# Altium footprint library BRye_PCBLib.PcbLib: 45 footprints (part 1 of 3)
Each footprint in its own frame and in the unit in brackets; x right, y up, seen from the top. Pads: shape width x height; smd on the part's side, far side on the other; paste and mask are expansions set on the pad; w line width, h text height; cw(c..) or ccw(c..) is an arc to the next point about the centre after c.
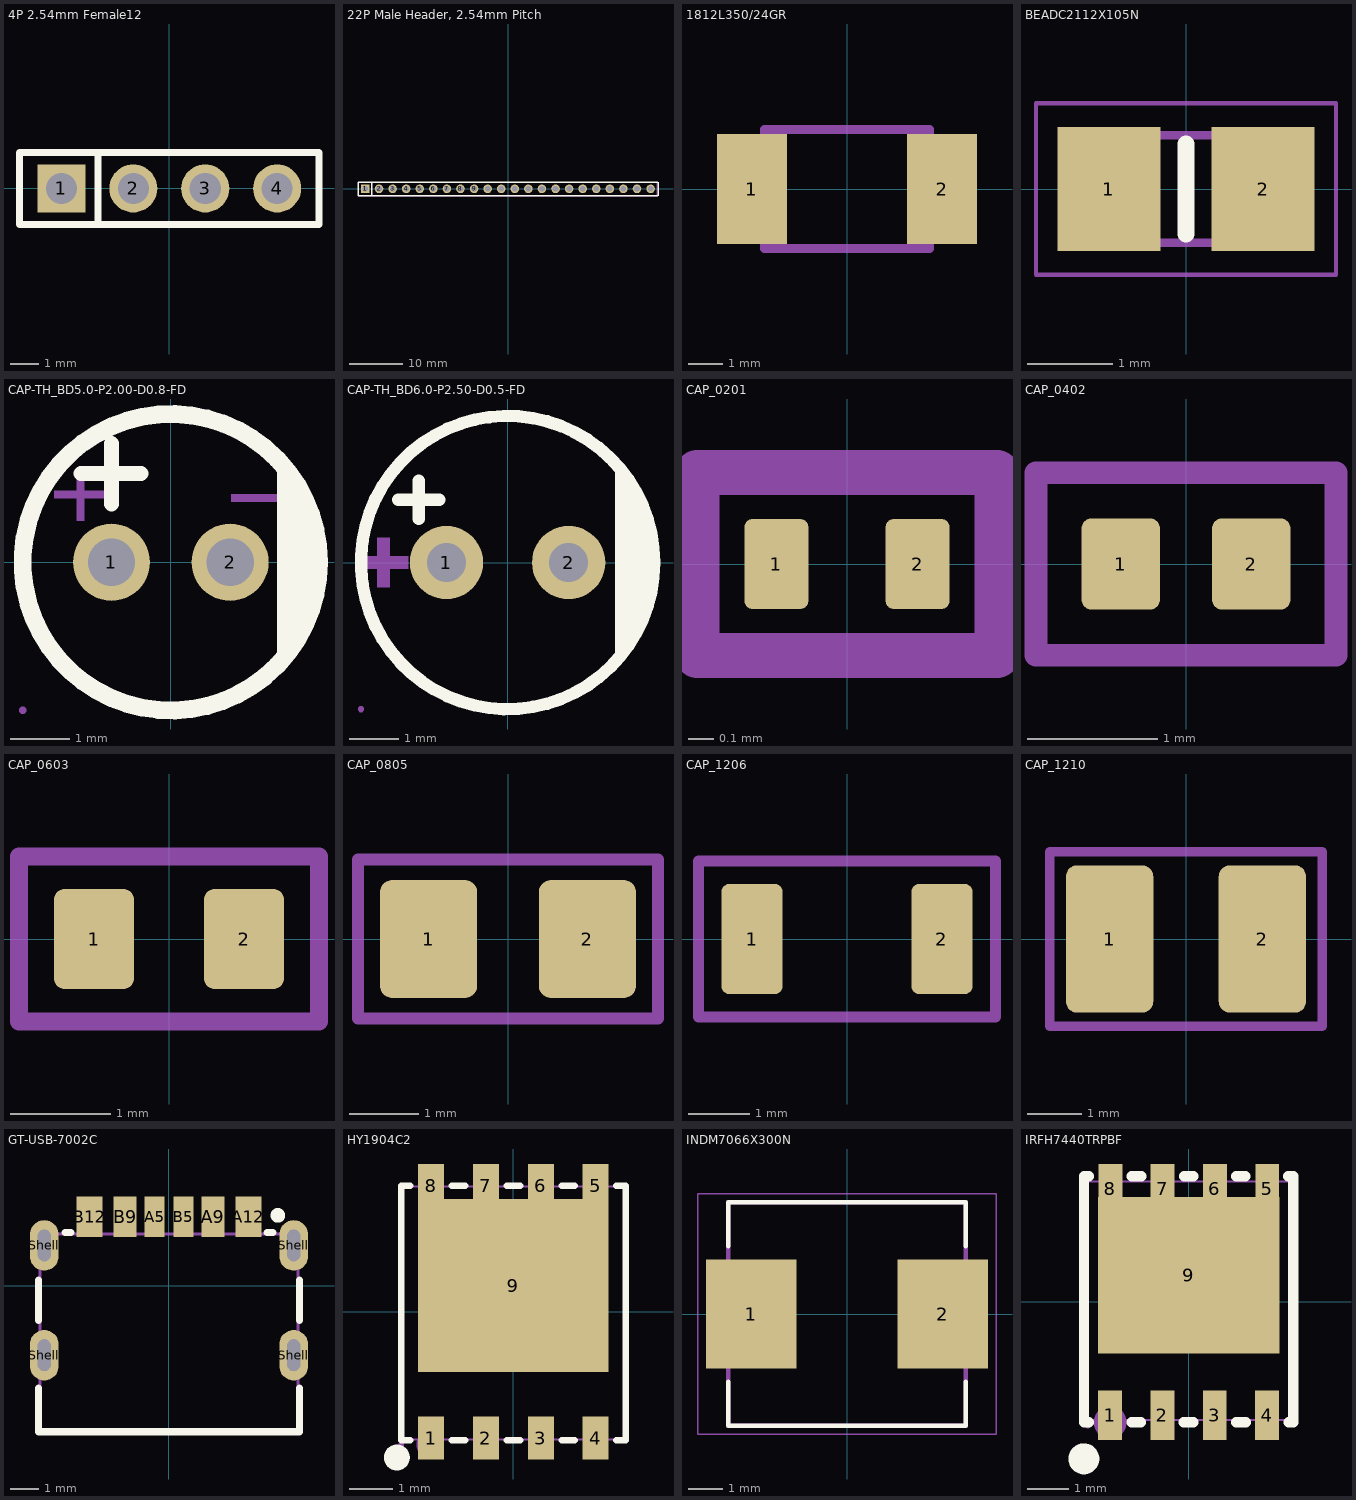
[diagram p0: the footprints below, top view; thin cyan lines are the x and y axes]

## 4P 2.54mm Female12 [mm]
pads (4):
  rect 1.7x1.7 hole 1.1: 1(-3.81,0)
  round 1.7 hole 1.1: 2(-1.27,0) 3(1.27,0) 4(3.81,0)
Top Overlay:
  lines w0.254: -2.516,-1.27 -2.516,1.27 ; -5.29,-1.27 -5.29,1.27 5.29,1.27 5.29,-1.27 -5.29,-1.27
Mechanical 15:
  region: -4.13,0.15 -3.49,0.15 -3.49,-0.15 -4.13,-0.15
  region: -1.59,0.15 -0.95,0.15 -0.95,-0.15 -1.59,-0.15
  region: 0.95,0.15 1.59,0.15 1.59,-0.15 0.95,-0.15
  region: 3.49,0.15 4.13,0.15 4.13,-0.15 3.49,-0.15
  region: -5.19,-1.25 -5.19,-1.275 -5.225,-1.31 -5.275,-1.31 -5.31,-1.275 -5.31,-1.25 -5.31,-1.225 -5.275,-1.19 -5.225,-1.19 -5.19,-1.225
  lines w0.051: -5.25,-1.25 -5.25,1.25 5.25,1.25 5.25,-1.25 -5.25,-1.25

## 22P Male Header, 2.54mm Pitch [mm]
pads (22):
  rect 1.6x1.6 hole 1.05: 1(-26.67,0)
  round 1.6 hole 1.05: 2(-24.13,0) 3(-21.59,0) 4(-19.05,0) 5(-16.51,0) 6(-13.97,0) 7(-11.43,0) 8(-8.89,0) 9(-6.35,0) 10(-3.81,0) 11(-1.27,0) 12(1.27,0) 13(3.81,0) 14(6.35,0) 15(8.89,0) 16(11.43,0) 17(13.97,0) 18(16.51,0) 19(19.05,0) 20(21.59,0) 21(24.13,0) 22(26.67,0)
Top Overlay:
  lines w0.254: -25.492,-1.25 -25.492,1.25 ; 28.03,-1.25 -28.06,-1.25 -28.06,1.25 28.03,1.25 ; 28.06,-1.25 28.06,1.25
Mechanical 15:
  region: -26.99,0.32 -26.35,0.32 -26.35,-0.32 -26.99,-0.32
  region: -24.45,0.32 -23.81,0.32 -23.81,-0.32 -24.45,-0.32
  region: -21.91,0.32 -21.27,0.32 -21.27,-0.32 -21.91,-0.32
  region: -19.37,0.32 -18.73,0.32 -18.73,-0.32 -19.37,-0.32
  region: -16.83,0.32 -16.19,0.32 -16.19,-0.32 -16.83,-0.32
  region: -14.29,0.32 -13.65,0.32 -13.65,-0.32 -14.29,-0.32
  region: -11.75,0.32 -11.11,0.32 -11.11,-0.32 -11.75,-0.32
  region: -9.21,0.32 -8.57,0.32 -8.57,-0.32 -9.21,-0.32
  region: -6.67,0.32 -6.03,0.32 -6.03,-0.32 -6.67,-0.32
  region: -4.13,0.32 -3.49,0.32 -3.49,-0.32 -4.13,-0.32
  region: -1.59,0.32 -0.95,0.32 -0.95,-0.32 -1.59,-0.32
  region: 0.95,0.32 1.59,0.32 1.59,-0.32 0.95,-0.32
  region: 3.49,0.32 4.13,0.32 4.13,-0.32 3.49,-0.32
  region: 6.03,0.32 6.67,0.32 6.67,-0.32 6.03,-0.32
  region: 8.57,0.32 9.21,0.32 9.21,-0.32 8.57,-0.32
  region: 11.11,0.32 11.75,0.32 11.75,-0.32 11.11,-0.32
  region: 13.65,0.32 14.29,0.32 14.29,-0.32 13.65,-0.32
  region: 16.19,0.32 16.83,0.32 16.83,-0.32 16.19,-0.32
  region: 18.73,0.32 19.37,0.32 19.37,-0.32 18.73,-0.32
  region: 21.27,0.32 21.91,0.32 21.91,-0.32 21.27,-0.32
  region: 23.81,0.32 24.45,0.32 24.45,-0.32 23.81,-0.32
  region: 26.35,0.32 26.99,0.32 26.99,-0.32 26.35,-0.32
  region: -27.88,-1.27 -27.88,-1.295 -27.915,-1.33 -27.965,-1.33 -28,-1.295 -28,-1.27 -28,-1.245 -27.965,-1.21 -27.915,-1.21 -27.88,-1.245
  lines w0.051: -27.94,-1.27 -27.94,1.27 27.94,1.27 27.94,-1.27 -27.94,-1.27

## 1812L350/24GR [mm]
pads (2):
  rect 2x3.15 smd: 1(-2.725,0) 2(2.725,0)
Top Courtyard:
  lines w0.254: -2.365,-1.705 2.365,-1.705 2.365,1.705 -2.365,1.705 -2.365,-1.705
3D body: height 1.5, standoff 0, extent -2.365,-1.705 2.365,1.705

## BEADC2112X105N [mm]
pads (2):
  rect 1.2x1.45 smd: 1(-0.9,0) 2(0.9,0)
Top Overlay:
  lines w0.2: 0,-0.525 0,0.525
Top Assembly:
  lines w0.1: -1.05,-0.625 1.05,-0.625 1.05,0.625 -1.05,0.625 -1.05,-0.625
Mechanical 15:
  lines w0.05: -1.75,-1 1.75,-1 1.75,1 -1.75,1 -1.75,-1
3D body "GZ2012D601TF.stp": height 1.05, standoff 0, extent -1.05,-0.625 1.05,0.625

## CAP-TH_BD5.0-P2.00-D0.8-FD [mm]
pads (2):
  round 1.3 hole 0.8: 1(-1,0) 2(1,0)
Top Overlay:
  circle w0.3: c0,0 r2.5
  region: 1.794,1.651 1.961,1.491 2.225,1.111 2.407,0.685 2.5,0.231 2.5,-0.231 2.407,-0.685 2.225,-1.111 1.961,-1.491 1.794,-1.651
  lines w0.254: -1.516,1.5 -0.5,1.5 ; -1,0.984 -1,2
Mechanical 6:
  region: 1.016,1.143 1.905,1.143 1.905,1.016 1.016,1.016
  region: -1.588,0.699 -1.588,1.588 -1.461,1.588 -1.46,0.699
  region: -1.969,1.207 -1.08,1.207 -1.08,1.08 -1.969,1.08
Mechanical 15:
  region: 1.3,0 1.3,-0.06 1.254,-0.17 1.17,-0.254 1.06,-0.3 0.94,-0.3 0.83,-0.254 0.746,-0.17 0.7,-0.06 0.7,0 0.7,0.06 0.746,0.17 0.83,0.254 0.94,0.3 1.06,0.3 1.17,0.254 1.254,0.17 1.3,0.06
  region: -0.7,0 -0.7,-0.06 -0.746,-0.17 -0.83,-0.254 -0.94,-0.3 -1.06,-0.3 -1.17,-0.254 -1.254,-0.17 -1.3,-0.06 -1.3,0 -1.3,0.06 -1.254,0.17 -1.17,0.254 -1.06,0.3 -0.94,0.3 -0.83,0.254 -0.746,0.17 -0.7,0.06
  region: -2.44,-2.5 -2.44,-2.525 -2.475,-2.56 -2.525,-2.56 -2.56,-2.525 -2.56,-2.5 -2.56,-2.475 -2.525,-2.44 -2.475,-2.44 -2.44,-2.475
  lines w0.051: 0,-2.5 ccw(c0,0) 2.5,0 ; 0,-2.5 cw(c0,0) -2.5,0 cw(c0,0) 0,2.5 cw(c0,0) 2.5,0 ; 0,-2.5 0,-2.5 ; 2.5,0 2.5,0

## CAP-TH_BD6.0-P2.50-D0.5-FD [mm]
pads (2):
  round 1.5 hole 0.8: 1(-1.25,0) 2(1.25,0)
Top Overlay:
  circle w0.254: c0,0 r3
  region: 2.2,-2.1 2.339,-1.961 2.579,-1.649 2.775,-1.308 2.926,-0.945 3.027,-0.565 3.079,-0.175 3.079,0.218 3.027,0.608 2.926,0.988 2.775,1.351 2.579,1.692 2.339,2.004 2.2,2.143
  lines w0.254: -2.235,1.284 -1.397,1.284 ; -1.816,0.89 -1.816,1.677
Mechanical 6:
  region: -3.048,0.127 -2.667,0.127 -2.667,0.508 -2.413,0.508 -2.413,0.127 -2.032,0.127 -2.032,-0.127 -2.413,-0.127 -2.413,-0.508 -2.667,-0.508 -2.667,-0.127 -3.048,-0.127
  region: 2.2,-2.1 2.339,-1.961 2.579,-1.649 2.775,-1.308 2.926,-0.945 3.027,-0.565 3.079,-0.175 3.079,0.218 3.027,0.608 2.926,0.988 2.775,1.351 2.579,1.692 2.339,2.004 2.2,2.143
Mechanical 15:
  region: -1,0 -1,-0.05 -1.038,-0.142 -1.108,-0.212 -1.2,-0.25 -1.3,-0.25 -1.392,-0.212 -1.462,-0.142 -1.5,-0.05 -1.5,0 -1.5,0.05 -1.462,0.142 -1.392,0.212 -1.3,0.25 -1.2,0.25 -1.108,0.212 -1.038,0.142 -1,0.05
  region: 1.5,0 1.5,-0.05 1.462,-0.142 1.392,-0.212 1.3,-0.25 1.2,-0.25 1.109,-0.212 1.038,-0.142 1,-0.05 1,0 1,0.05 1.038,0.142 1.109,0.212 1.2,0.25 1.3,0.25 1.392,0.212 1.462,0.142 1.5,0.05
  region: -2.94,-3 -2.94,-3.025 -2.975,-3.06 -3.025,-3.06 -3.06,-3.025 -3.06,-3 -3.06,-2.975 -3.025,-2.94 -2.975,-2.94 -2.94,-2.975
  lines w0.051: -3,0 cw(c0,0) 0,3 cw(c0,0) 3,0 cw(c0,0) 0,-3 cw(c0,0) -3,0

## CAP_0201 [mm]
pads (2):
  rrect25% 0.25x0.35 smd mask+0.05: 1(-0.275,0) 2(0.275,0)
Top Assembly:
  lines w0.175: -0.584,-0.356 -0.584,0.356 0.584,0.356 0.584,-0.356 -0.584,-0.356
  text "'.Designator'" at -5.665,-0.417 h1
3D body "C0201.stp": height 0.34, standoff 0.01, extent -0.315,-0.166 0.315,0.164

## CAP_0402 [mm]
pads (2):
  rrect25% 0.6x0.7 smd: 1(-0.5,0) 2(0.5,0)
Top Assembly:
  lines w0.175: -1.15,-0.7 1.15,-0.7 1.15,0.7 -1.15,0.7 -1.15,-0.7
  text "'.Designator'" at -5.665,-0.29 h1
3D body "C0402.step": height 0.37, standoff 0.01, extent -0.5,-0.265 0.5,0.265

## CAP_0603 [mm]
pads (2):
  rrect25% 0.8x1 smd: 1(-0.75,0) 2(0.75,0)
Top Assembly:
  lines w0.175: -1.5,-0.825 -1.5,0.825 1.5,0.825 1.5,-0.825 -1.5,-0.825
  text "'.Designator'" at -5.665,-0.417 h1
3D body "C0603.step": height 0.51, standoff 0.01, extent -0.8,-0.4 0.8,0.4

## CAP_0805 [mm]
pads (2):
  rrect25% 1.4x1.7 smd: 1(-1.143,0) 2(1.143,0)
Top Assembly:
  lines w0.175: -2.159,-1.143 2.159,-1.143 2.159,1.143 -2.159,1.143 -2.159,-1.143
  text "'.Designator'" at -5.665,-0.417 h1
3D body "C0805.stp": height 1.01, standoff 0.01, extent -1.15,-0.762 1.15,0.788

## CAP_1206 [mm]
pads (2):
  rrect25% 1x1.8 smd: 1(-1.55,0) 2(1.55,0)
Top Assembly:
  lines w0.175: -2.425,-1.275 -2.425,1.275 2.425,1.275 2.425,-1.275 -2.425,-1.275
  text "'.Designator'" at -5.665,-0.417 h1
3D body "C1206.step": height 0.94, standoff 0, extent -1.6,-0.8 1.6,0.8

## CAP_1210 [mm]
height 1.35
pads (2):
  rrect25% 1.6x2.7 smd: 1(-1.4,0) 2(1.4,0)
Top Assembly:
  lines w0.175: -2.5,-1.6 2.5,-1.6 2.5,1.6 -2.5,1.6 -2.5,-1.6
  text "'.Designator'" at -5.665,-0.417 h1
3D body "C1210.step": height 2.5, standoff 0, extent -1.6,-1.25 1.6,1.25

## GT-USB-7002C [mm] "6 Pin USB type-c footrprint"
pads (10):
  rect 0.7x1.4 smd: A5(-0.5,2.4) B5(0.5,2.4)
  rect 0.8x1.4 smd: A9(1.52,2.4) B9(-1.52,2.4)
  rect 0.9x1.4 smd: A12(2.75,2.4) B12(-2.75,2.4)
  oval 1x1.75 hole 0.45 slot 1.1 at 90 deg: Shell(-4.32,-2.4) Shell(-4.32,1.4) Shell(4.32,-2.4) Shell(4.32,1.4)
Top Overlay:
  circle w0.254: c3.77,2.44 r0.127
  lines w0.254: -4.52,-3.55 -4.52,-5.05 4.52,-5.05 4.52,-3.55 ; -4.52,-1.2 -4.52,0.2 ; -3.6,1.85 -3.4,1.85 ; 3.4,1.85 3.6,1.85 ; 4.52,-1.2 4.52,0.2
Top Courtyard:
  lines w0.1: -4.47,-5 4.47,-5 4.47,1.8 -4.47,1.8 -4.47,-5

## HY1904C2 [mm] "HY1904C2"
pads (9):
  rect 0.6x1 smd paste-100 mask+0.05: 1(-1.905,-2.925) 2(-0.635,-2.925) 3(0.635,-2.925) 4(1.905,-2.925) 5(1.905,2.925) 6(0.635,2.925) 7(-0.635,2.925) 8(-1.905,2.925)
  rect 4.41x4 smd paste-100 mask+0.05: 9(0,0.61)
Top Overlay:
  circle w0.3: c-2.7,-3.375 r0.15
  lines w0.152: -2.385,-2.975 -2.6,-2.975 -2.6,2.925 -2.385,2.925 ; -1.425,-2.975 -1.115,-2.975 ; -1.425,2.925 -1.115,2.925 ; -0.155,-2.975 0.155,-2.975 ; -0.155,2.925 0.155,2.925 ; 1.115,-2.975 1.425,-2.975 ; 1.115,2.925 1.425,2.925 ; 2.385,-2.975 2.6,-2.975 2.6,2.925 2.385,2.925
Top Paste:
  region: 2.205,3.425 1.605,3.425 1.605,2.61 0.935,2.61 0.935,3.425 0.335,3.425 0.335,2.61 -0.335,2.61 -0.335,3.425 -0.935,3.425 -0.935,2.61 -1.605,2.61 -1.605,3.425 -2.205,3.425 -2.205,-1.39 2.205,-1.39
  region: 1.605,-3.425 2.205,-3.425 2.205,-2.425 1.605,-2.425
  region: 0.335,-3.425 0.935,-3.425 0.935,-2.425 0.335,-2.425
  region: -0.935,-3.425 -0.335,-3.425 -0.335,-2.425 -0.935,-2.425
  region: -2.205,-3.425 -1.605,-3.425 -1.605,-2.425 -2.205,-2.425
Mechanical 6:
  circle w0.3: c-1.95,-3.075 r0.15
Mechanical 15:
  region: -2.54,-3.075 -2.54,-3.1 -2.575,-3.135 -2.625,-3.135 -2.66,-3.1 -2.66,-3.075 -2.66,-3.05 -2.625,-3.015 -2.575,-3.015 -2.54,-3.05
  region: -2.105,3.075 -1.705,3.075 -1.705,2.475 -2.105,2.475
  region: -0.835,3.075 -0.435,3.075 -0.435,2.475 -0.835,2.475
  region: 0.435,3.075 0.835,3.075 0.835,2.475 0.435,2.475
  region: 1.705,3.075 2.105,3.075 2.105,2.475 1.705,2.475
  region: 1.705,-2.475 2.105,-2.475 2.105,-3.075 1.705,-3.075
  region: 0.435,-2.475 0.835,-2.475 0.835,-3.075 0.435,-3.075
  region: -0.835,-2.475 -0.435,-2.475 -0.435,-3.075 -0.835,-3.075
  region: -2.105,-2.475 -1.705,-2.475 -1.705,-3.075 -2.105,-3.075
  region: -2.125,-1.27 -2.125,2.55 2.125,2.55 2.125,-1.27
  lines w0.051: -2.6,-2.955 -2.6,2.905 2.6,2.905 2.6,-2.955 -2.6,-2.955

## INDM7066X300N [mm]
height 3
pads (2):
  rect 2.67x3.21 smd: 1(-2.82,0) 2(2.82,0)
Top Overlay:
  lines w0.127: -3.5,-2 -3.5,-3.3 3.5,-3.3 3.5,-2 ; -3.5,2 -3.5,3.3 3.5,3.3 3.5,2
Top Assembly:
  lines w0.127: -3.5,-3.3 -3.5,3.3 3.5,3.3 3.5,-3.3 -3.5,-3.3
Mechanical 15:
  lines w0.05: -4.405,-3.55 -4.405,3.55 4.405,3.55 4.405,-3.55 -4.405,-3.55

## IRFH7440TRPBF [mm] "IRFH7440TRPBF Footprint"
pads (9):
  rect 0.58x1.2 smd paste-100 mask+0.051: 1(-1.907,-2.75) 2(-0.637,-2.75) 3(0.633,-2.75) 4(1.903,-2.75) 5(1.907,2.75) 6(0.638,2.75) 7(-0.632,2.75) 8(-1.902,2.75)
  rect 4.4x3.8 smd paste-100 mask+0.051: 9(0,0.646)
Top Overlay:
  lines w0.254: -2.429,-2.917 -2.542,-2.917 -2.542,3.052 -2.423,3.052 ; -1.386,-2.917 -1.159,-2.917 ; -1.381,3.052 -1.153,3.052 ; -0.116,-2.917 0.111,-2.917 ; -0.111,3.052 0.117,3.052 ; 1.154,-2.917 1.381,-2.917 ; 1.159,3.052 1.376,3.052 ; 2.419,3.052 2.538,3.052 2.538,-2.917 2.424,-2.917
  lines w0.5: -2.669,-3.81 ccw(c-2.545,-3.809) -2.421,-3.809 ccw(c-2.545,-3.809) -2.669,-3.807
Top Paste:
  region: -2.192,3.35 -2.192,2.546 -2.2,2.546 -2.2,-1.254 2.2,-1.254 2.2,2.546 2.197,2.546 2.197,3.35 1.617,3.35 1.617,2.546 0.928,2.546 0.928,3.35 0.348,3.35 0.348,2.546 -0.342,2.546 -0.342,3.35 -0.922,3.35 -0.922,2.546 -1.612,2.546 -1.612,3.35
  region: -1.617,-3.35 -2.197,-3.35 -2.197,-2.15 -1.617,-2.15
  region: -0.347,-3.35 -0.927,-3.35 -0.927,-2.15 -0.347,-2.15
  region: 0.923,-3.35 0.343,-3.35 0.343,-2.15 0.923,-2.15
  region: 2.193,-3.35 1.613,-3.35 1.613,-2.15 2.193,-2.15
Mechanical 6:
  circle w0.4: c-1.907,-2.921 r0.2
Mechanical 15:
  region: -1.707,-3.01 -2.107,-3.01 -2.107,-2.36 -1.707,-2.36
  region: -0.437,-3.01 -0.837,-3.01 -0.837,-2.36 -0.437,-2.36
  region: 0.833,-3.01 0.433,-3.01 0.433,-2.36 0.833,-2.36
  region: 2.103,-3.01 1.703,-3.01 1.703,-2.36 2.103,-2.36
  region: -2.102,3.075 -1.702,3.075 -1.702,2.425 -2.102,2.425
  region: -0.832,3.075 -0.432,3.075 -0.432,2.425 -0.832,2.425
  region: 0.438,3.075 0.838,3.075 0.838,2.425 0.438,2.425
  region: 1.707,3.075 2.107,3.075 2.107,2.425 1.707,2.425
  region: -2.002,2.43 1.998,2.43 1.998,-1.07 -2.002,-1.07
  region: -2.393,-3.01 -2.393,-3.035 -2.428,-3.07 -2.477,-3.07 -2.512,-3.035 -2.512,-3.01 -2.512,-2.985 -2.477,-2.95 -2.428,-2.95 -2.393,-2.985
  lines w0.051: -2.452,-2.87 -2.452,2.93 2.448,2.93 2.448,-2.87 -2.452,-2.87